# EAGLE library part XCV600ES_HQ240 (library xilinx-xcv)
xcv600es_hq240 edit this description Auto generated by make-symbol-device-package-bsdl.ulp Rev. 26 Source: xcv600es_hq240.bsd
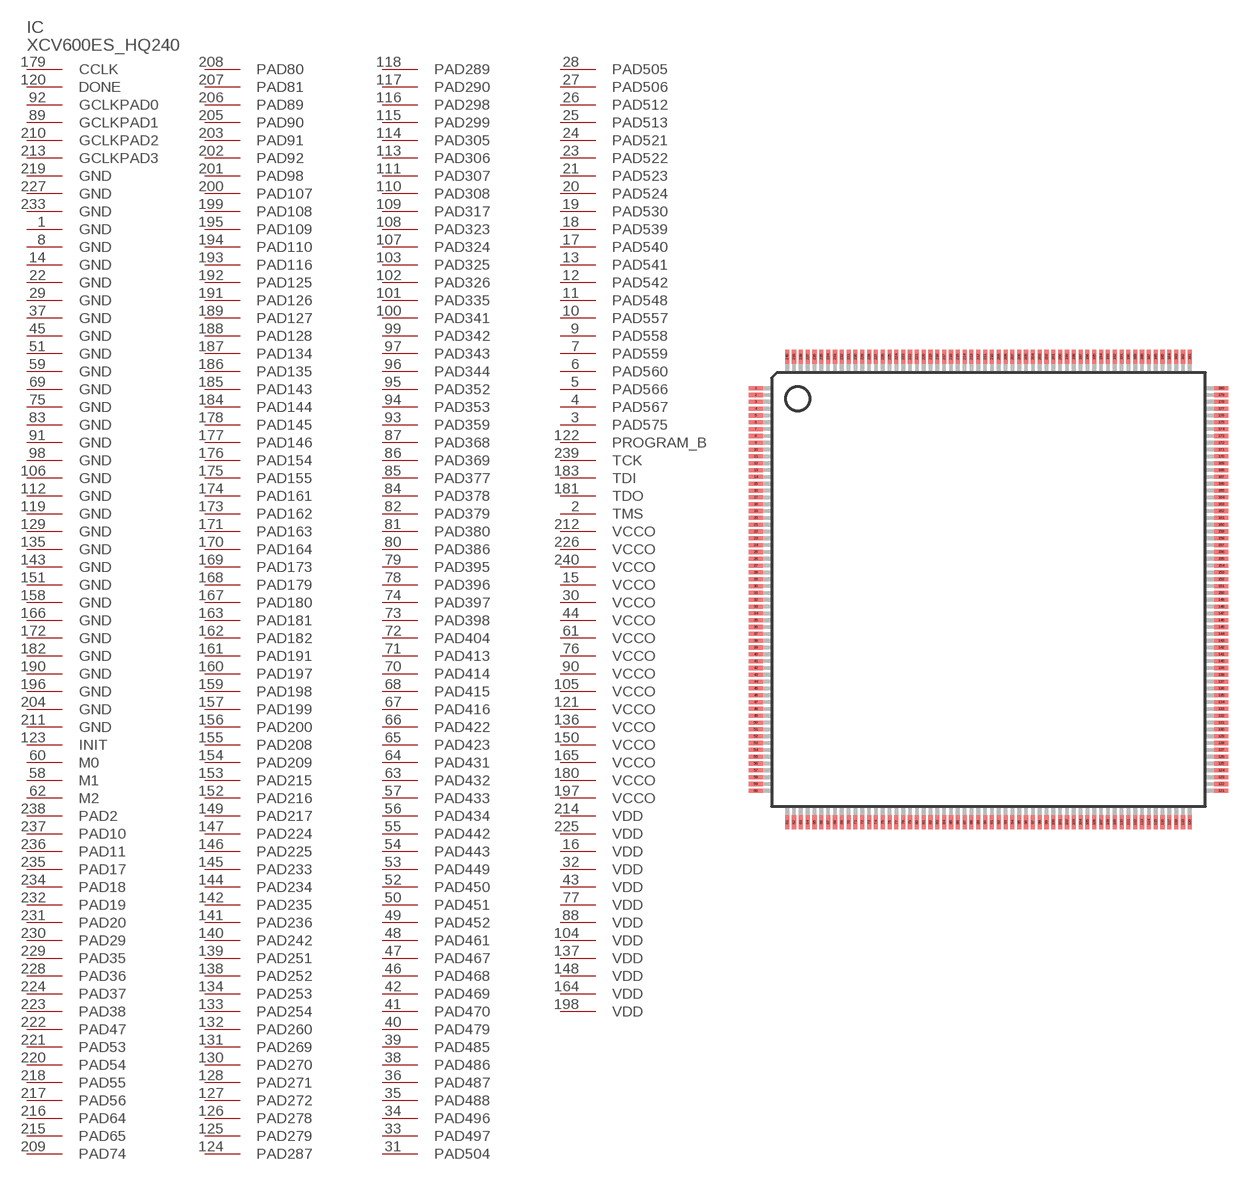
[diagram p126: symbol with the pads of HQ240; footprint HQ240]

Designator prefix IC

## XCV600ES_HQ240 (OC_FARNELL: unknown; OC_NEWARK: unknown)  [HQ240]
1  GND  pwr
2  TMS  in
3  PAD575
4  PAD567
5  PAD566
6  PAD560
7  PAD559
8  GND  pwr
9  PAD558
10  PAD557
11  PAD548
12  PAD542
13  PAD541
14  GND  pwr
15  VCCO  pwr
16  VDD  pwr
17  PAD540
18  PAD539
19  PAD530
20  PAD524
21  PAD523
22  GND  pwr
23  PAD522
24  PAD521
25  PAD513
26  PAD512
27  PAD506
28  PAD505
29  GND  pwr
30  VCCO  pwr
31  PAD504
32  VDD  pwr
33  PAD497
34  PAD496
35  PAD488
36  PAD487
37  GND  pwr
38  PAD486
39  PAD485
40  PAD479
41  PAD470
42  PAD469
43  VDD  pwr
44  VCCO  pwr
45  GND  pwr
46  PAD468
47  PAD467
48  PAD461
49  PAD452
50  PAD451
51  GND  pwr
52  PAD450
53  PAD449
54  PAD443
55  PAD442
56  PAD434
57  PAD433
58  M1  in
59  GND  pwr
60  M0  in
61  VCCO  pwr
62  M2  in
63  PAD432
64  PAD431
65  PAD423
66  PAD422
67  PAD416
68  PAD415
69  GND  pwr
70  PAD414
71  PAD413
72  PAD404
73  PAD398
74  PAD397
75  GND  pwr
76  VCCO  pwr
77  VDD  pwr
78  PAD396
79  PAD395
80  PAD386
81  PAD380
82  PAD379
83  GND  pwr
84  PAD378
85  PAD377
86  PAD369
87  PAD368
88  VDD  pwr
89  GCLKPAD1  in
90  VCCO  pwr
91  GND  pwr
92  GCLKPAD0  in
93  PAD359
94  PAD353
95  PAD352
96  PAD344
97  PAD343
98  GND  pwr
99  PAD342
100  PAD341
101  PAD335
102  PAD326
103  PAD325
104  VDD  pwr
105  VCCO  pwr
106  GND  pwr
107  PAD324
108  PAD323
109  PAD317
110  PAD308
111  PAD307
112  GND  pwr
113  PAD306
114  PAD305
115  PAD299
116  PAD298
117  PAD290
118  PAD289
119  GND  pwr
120  DONE
121  VCCO  pwr
122  PROGRAM_B  in
123  INIT
124  PAD287
125  PAD279
126  PAD278
127  PAD272
128  PAD271
129  GND  pwr
130  PAD270
131  PAD269
132  PAD260
133  PAD254
134  PAD253
135  GND  pwr
136  VCCO  pwr
137  VDD  pwr
138  PAD252
139  PAD251
140  PAD242
141  PAD236
142  PAD235
143  GND  pwr
144  PAD234
145  PAD233
146  PAD225
147  PAD224
148  VDD  pwr
149  PAD217
150  VCCO  pwr
151  GND  pwr
152  PAD216
153  PAD215
154  PAD209
155  PAD208
156  PAD200
157  PAD199
158  GND  pwr
159  PAD198
160  PAD197
161  PAD191
162  PAD182
163  PAD181
164  VDD  pwr
165  VCCO  pwr
166  GND  pwr
167  PAD180
168  PAD179
169  PAD173
170  PAD164
171  PAD163
172  GND  pwr
173  PAD162
174  PAD161
175  PAD155
176  PAD154
177  PAD146
178  PAD145
179  CCLK
180  VCCO  pwr
181  TDO  out
182  GND  pwr
183  TDI  in
184  PAD144
185  PAD143
186  PAD135
187  PAD134
188  PAD128
189  PAD127
190  GND  pwr
191  PAD126
192  PAD125
193  PAD116
194  PAD110
195  PAD109
196  GND  pwr
197  VCCO  pwr
198  VDD  pwr
199  PAD108
200  PAD107
201  PAD98
202  PAD92
203  PAD91
204  GND  pwr
205  PAD90
206  PAD89
207  PAD81
208  PAD80
209  PAD74
210  GCLKPAD2  in
211  GND  pwr
212  VCCO  pwr
213  GCLKPAD3  in
214  VDD  pwr
215  PAD65
216  PAD64
217  PAD56
218  PAD55
219  GND  pwr
220  PAD54
221  PAD53
222  PAD47
223  PAD38
224  PAD37
225  VDD  pwr
226  VCCO  pwr
227  GND  pwr
228  PAD36
229  PAD35
230  PAD29
231  PAD20
232  PAD19
233  GND  pwr
234  PAD18
235  PAD17
236  PAD11
237  PAD10
238  PAD2
239  TCK  in
240  VCCO  pwr

## Footprint HQ240 (pad centres in mm)
HQ240 Auto generated by make-symbol-device-package-bsdl.ulp Rev. 26
smd 1 x 0.3: 1 -17.05,14.75; 2 -17.05,14.25; 3 -17.05,13.75; 4 -17.05,13.25; 5 -17.05,12.75; 6 -17.05,12.25; 7 -17.05,11.75; 8 -17.05,11.25; 9 -17.05,10.75; 10 -17.05,10.25; 11 -17.05,9.75; 12 -17.05,9.25; 13 -17.05,8.75; 14 -17.05,8.25; 15 -17.05,7.75; 16 -17.05,7.25; 17 -17.05,6.75; 18 -17.05,6.25; 19 -17.05,5.75; 20 -17.05,5.25; 21 -17.05,4.75; 22 -17.05,4.25; 23 -17.05,3.75; 24 -17.05,3.25; 25 -17.05,2.75; 26 -17.05,2.25; 27 -17.05,1.75; 28 -17.05,1.25; 29 -17.05,0.75; 30 -17.05,0.25; 31 -17.05,-0.25; 32 -17.05,-0.75; 33 -17.05,-1.25; 34 -17.05,-1.75; 35 -17.05,-2.25; 36 -17.05,-2.75; 37 -17.05,-3.25; 38 -17.05,-3.75; 39 -17.05,-4.25; 40 -17.05,-4.75; 41 -17.05,-5.25; 42 -17.05,-5.75; 43 -17.05,-6.25; 44 -17.05,-6.75; 45 -17.05,-7.25; 46 -17.05,-7.75; 47 -17.05,-8.25; 48 -17.05,-8.75; 49 -17.05,-9.25; 50 -17.05,-9.75; 51 -17.05,-10.25; 52 -17.05,-10.75; 53 -17.05,-11.25; 54 -17.05,-11.75; 55 -17.05,-12.25; 56 -17.05,-12.75; 57 -17.05,-13.25; 58 -17.05,-13.75; 59 -17.05,-14.25; 60 -17.05,-14.75; 121 17.05,-14.75; 122 17.05,-14.25; 123 17.05,-13.75; 124 17.05,-13.25; 125 17.05,-12.75; 126 17.05,-12.25; 127 17.05,-11.75; 128 17.05,-11.25; 129 17.05,-10.75; 130 17.05,-10.25; 131 17.05,-9.75; 132 17.05,-9.25; 133 17.05,-8.75; 134 17.05,-8.25; 135 17.05,-7.75; 136 17.05,-7.25; 137 17.05,-6.75; 138 17.05,-6.25; 139 17.05,-5.75; 140 17.05,-5.25; 141 17.05,-4.75; 142 17.05,-4.25; 143 17.05,-3.75; 144 17.05,-3.25; 145 17.05,-2.75; 146 17.05,-2.25; 147 17.05,-1.75; 148 17.05,-1.25; 149 17.05,-0.75; 150 17.05,-0.25; 151 17.05,0.25; 152 17.05,0.75; 153 17.05,1.25; 154 17.05,1.75; 155 17.05,2.25; 156 17.05,2.75; 157 17.05,3.25; 158 17.05,3.75; 159 17.05,4.25; 160 17.05,4.75; 161 17.05,5.25; 162 17.05,5.75; 163 17.05,6.25; 164 17.05,6.75; 165 17.05,7.25; 166 17.05,7.75; 167 17.05,8.25; 168 17.05,8.75; 169 17.05,9.25; 170 17.05,9.75; 171 17.05,10.25; 172 17.05,10.75; 173 17.05,11.25; 174 17.05,11.75; 175 17.05,12.25; 176 17.05,12.75; 177 17.05,13.25; 178 17.05,13.75; 179 17.05,14.25; 180 17.05,14.75
smd 0.3 x 1: 61 -14.75,-17.05; 62 -14.25,-17.05; 63 -13.75,-17.05; 64 -13.25,-17.05; 65 -12.75,-17.05; 66 -12.25,-17.05; 67 -11.75,-17.05; 68 -11.25,-17.05; 69 -10.75,-17.05; 70 -10.25,-17.05; 71 -9.75,-17.05; 72 -9.25,-17.05; 73 -8.75,-17.05; 74 -8.25,-17.05; 75 -7.75,-17.05; 76 -7.25,-17.05; 77 -6.75,-17.05; 78 -6.25,-17.05; 79 -5.75,-17.05; 80 -5.25,-17.05; 81 -4.75,-17.05; 82 -4.25,-17.05; 83 -3.75,-17.05; 84 -3.25,-17.05; 85 -2.75,-17.05; 86 -2.25,-17.05; 87 -1.75,-17.05; 88 -1.25,-17.05; 89 -0.75,-17.05; 90 -0.25,-17.05; 91 0.25,-17.05; 92 0.75,-17.05; 93 1.25,-17.05; 94 1.75,-17.05; 95 2.25,-17.05; 96 2.75,-17.05; 97 3.25,-17.05; 98 3.75,-17.05; 99 4.25,-17.05; 100 4.75,-17.05; 101 5.25,-17.05; 102 5.75,-17.05; 103 6.25,-17.05; 104 6.75,-17.05; 105 7.25,-17.05; 106 7.75,-17.05; 107 8.25,-17.05; 108 8.75,-17.05; 109 9.25,-17.05; 110 9.75,-17.05; 111 10.25,-17.05; 112 10.75,-17.05; 113 11.25,-17.05; 114 11.75,-17.05; 115 12.25,-17.05; 116 12.75,-17.05; 117 13.25,-17.05; 118 13.75,-17.05; 119 14.25,-17.05; 120 14.75,-17.05; 181 14.75,17.05; 182 14.25,17.05; 183 13.75,17.05; 184 13.25,17.05; 185 12.75,17.05; 186 12.25,17.05; 187 11.75,17.05; 188 11.25,17.05; 189 10.75,17.05; 190 10.25,17.05; 191 9.75,17.05; 192 9.25,17.05; 193 8.75,17.05; 194 8.25,17.05; 195 7.75,17.05; 196 7.25,17.05; 197 6.75,17.05; 198 6.25,17.05; 199 5.75,17.05; 200 5.25,17.05; 201 4.75,17.05; 202 4.25,17.05; 203 3.75,17.05; 204 3.25,17.05; 205 2.75,17.05; 206 2.25,17.05; 207 1.75,17.05; 208 1.25,17.05; 209 0.75,17.05; 210 0.25,17.05; 211 -0.25,17.05; 212 -0.75,17.05; 213 -1.25,17.05; 214 -1.75,17.05; 215 -2.25,17.05; 216 -2.75,17.05; 217 -3.25,17.05; 218 -3.75,17.05; 219 -4.25,17.05; 220 -4.75,17.05; 221 -5.25,17.05; 222 -5.75,17.05; 223 -6.25,17.05; 224 -6.75,17.05; 225 -7.25,17.05; 226 -7.75,17.05; 227 -8.25,17.05; 228 -8.75,17.05; 229 -9.25,17.05; 230 -9.75,17.05; 231 -10.25,17.05; 232 -10.75,17.05; 233 -11.25,17.05; 234 -11.75,17.05; 235 -12.25,17.05; 236 -12.75,17.05; 237 -13.25,17.05; 238 -13.75,17.05; 239 -14.25,17.05; 240 -14.75,17.05